# EAGLE library part MAX763ACSA (library HomeKinection)
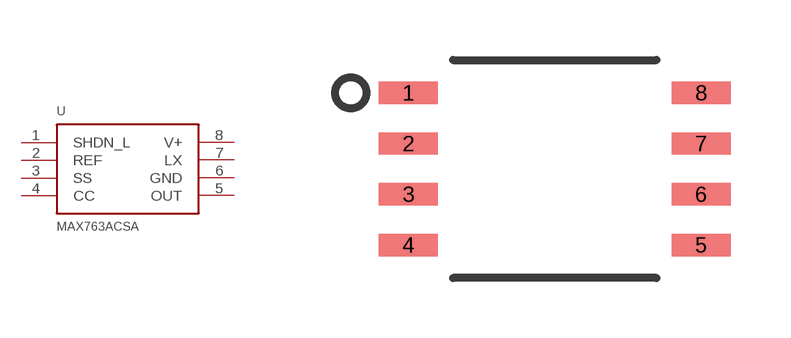
[diagram p1: symbol with the pads of 8SO; footprint 8SO]

Designator prefix -

## MAX763ACSA  [8SO]
1  SHDN_L  in
2  REF  out
3  SS  pwr
4  CC  in
5  OUT  pwr
6  GND  pwr
7  LX
8  V+  pwr

## Footprint 8SO (pad centres in mm)
smd 1.473 x 0.559: 1 -3.658,1.905; 2 -3.658,0.635; 3 -3.658,-0.635; 4 -3.658,-1.905; 5 3.658,-1.905; 6 3.658,-0.635; 7 3.658,0.635; 8 3.658,1.905